# Altium schematic symbol library 4518.Schlib: 1 symbol
Pins are listed as number, name and electrical type; pins without a type are passive.

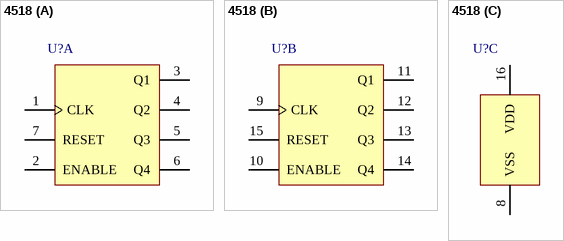
[diagram p0: symbol 4518]

## 4518
designator U?  (value not drawn)
Up Counter
part A pins: 1 CLK, 2 ENABLE, 3 Q1, 4 Q2, 5 Q3, 6 Q4, 7 RESET
part B pins: 9 CLK, 10 ENABLE, 11 Q1, 12 Q2, 13 Q3, 14 Q4, 15 RESET
part C pins: 8 VSS, 16 VDD